# Altium footprint library TO127P2020X500X2100-15.PcbLib: 1 footprints
Each footprint in its own frame and in the unit in brackets; x right, y up, seen from the top. Pads: shape width x height; smd on the part's side, far side on the other; paste and mask are expansions set on the pad; w line width, h text height; cw(c..) or ccw(c..) is an arc to the next point about the centre after c.
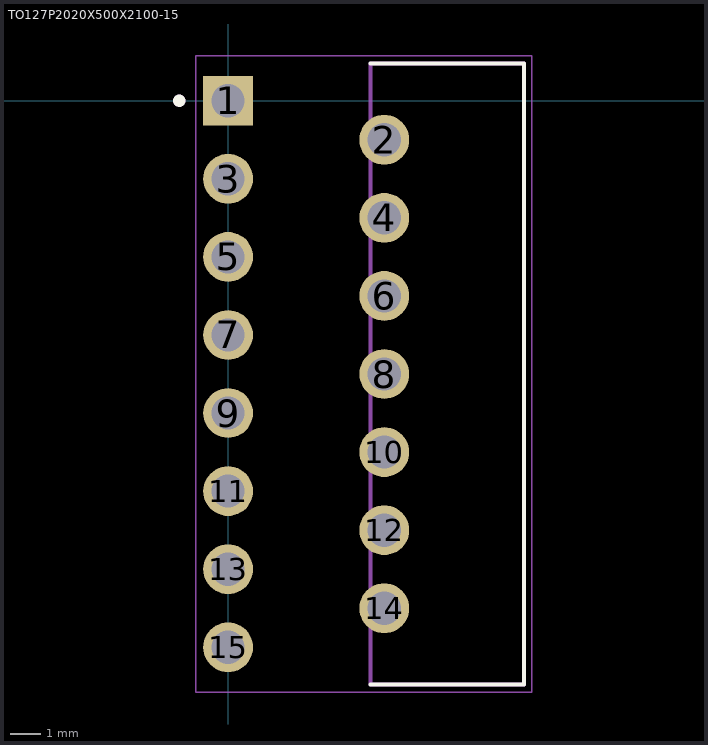
[diagram p0: the footprint, top view; thin cyan lines are the x and y axes]

## TO127P2020X500X2100-15 [mm]
pads (15):
  rect 1.62x1.62 hole 1.08: 1(0,0)
  round 1.62 hole 1.08: 2(5.08,-1.27) 3(0,-2.54) 4(5.08,-3.81) 5(0,-5.08) 6(5.08,-6.35) 7(0,-7.62) 8(5.08,-8.89) 9(0,-10.16) 10(5.08,-11.43) 11(0,-12.7) 12(5.08,-13.97) 13(0,-15.24) 14(5.08,-16.51) 15(0,-17.78)
Top Overlay:
  circle w0.2: c-1.59,0 r0.1
  lines w0.127: 4.63,-18.99 9.63,-18.99 9.63,1.21 4.63,1.21
Mechanical 13:
  circle w0.2: c-1.59,0 r0.1
  lines w0.127: 4.63,-18.99 9.63,-18.99 9.63,1.21 4.63,1.21 4.63,-18.99
Mechanical 15:
  lines w0.05: -1.06,-19.24 9.88,-19.24 9.88,1.46 -1.06,1.46 -1.06,-19.24
3D body "L298N--3DModel-STEP-56544.STEP": height 20.18, standoff -6.24, extent -1.077,-18.99 13.462,1.21